# Altium schematic symbol library SFH_203_FA.SchLib: 1 symbol
Pins are listed as number, name and electrical type; pins without a type are passive.

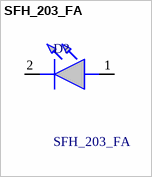
[diagram p0: symbol SFH_203_FA]

## SFH_203_FA
designator D?
Silicon PIN Photodiode; Manufacturer_Name: ams OSRAM; Manufacturer_Part_Number: SFH 203 FA; Geometry.Height: 8.9mm; TME Electronic Components Part Number: *; TME Electronic Components Price/Stock: *; Datasheet Link: https://datasheet.datasheetarchive.com/originals/distributors/DKDS41/DSANUWW0036828.pdf
footprint SFH203FA
pins: 1 A, 2 K